# Altium schematic symbol library LP5907MFX-3.3_NOPB.SchLib: 1 symbol
Pins are listed as number, name and electrical type; pins without a type are passive.

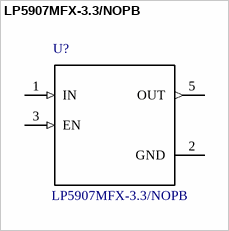
[diagram p0: symbol LP5907MFX-3.3/NOPB]

## LP5907MFX-3.3/NOPB
designator U?
IC REG LINEAR 3.3V 250MA SOT23; MF: Texas Instruments; Price: 0.32 USD; MP: LP5907MFX-3.3/NOPB; Package: SOT-23 Texas Instruments; Availability: Good; Value: *
footprint SOT95P280X145-5N
pins: 1 IN (in), 2 GND (power), 3 EN (in), 5 OUT (out)